# EAGLE library part 61304421821 (library Board-to-Board (rev18a))
WR-PHD 2.54mm Dual Socket Header, 44 Pins =>Code : Con_BTB_SHD_2.54_2_61304421821 <http://katalog.we-online.de/media/images/eican/Con_BTB_SHD_2.54_2_6130xx21821_pf2.jpg> Details see: http://katalog.we-online.de/en/em/613_0xx_218_21 Created 2014-05-29, Karrer Zheng 2014 (C) Würth Elektronik
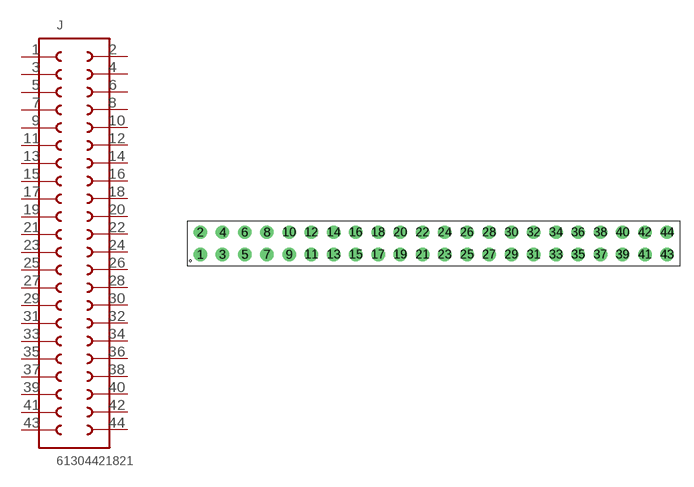
[diagram p123: symbol with the pads of 61304421821; footprint 61304421821]

Designator prefix J

## 61304421821  [61304421821]
1  1  pas
2  44  pas
3  2  pas
4  43  pas
5  3  pas
6  42  pas
7  4  pas
8  41  pas
9  5  pas
10  40  pas
11  6  pas
12  39  pas
13  7  pas
14  38  pas
15  8  pas
16  37  pas
17  9  pas
18  36  pas
19  10  pas
20  35  pas
21  11  pas
22  34  pas
23  12  pas
24  33  pas
25  13  pas
26  32  pas
27  14  pas
28  31  pas
29  15  pas
30  30  pas
31  16  pas
32  29  pas
33  17  pas
34  28  pas
35  18  pas
36  27  pas
37  19  pas
38  26  pas
39  20  pas
40  25  pas
41  21  pas
42  24  pas
43  22  pas
44  23  pas

## Footprint 61304421821 (pad centres in mm)
WR-PHD 2.54mm Dual Socket Header, 44 Pins
drill 1.02: 1 -26.67,-1.27; 2 -26.67,1.27; 3 -24.13,-1.27; 4 -24.13,1.27; 5 -21.59,-1.27; 6 -21.59,1.27; 7 -19.05,-1.27; 8 -19.05,1.27; 9 -16.51,-1.27; 10 -16.51,1.27; 11 -13.97,-1.27; 12 -13.97,1.27; 13 -11.43,-1.27; 14 -11.43,1.27; 15 -8.89,-1.27; 16 -8.89,1.27; 17 -6.35,-1.27; 18 -6.35,1.27; 19 -3.81,-1.27; 20 -3.81,1.27; 21 -1.27,-1.27; 22 -1.27,1.27; 23 1.27,-1.27; 24 1.27,1.27; 25 3.81,-1.27; 26 3.81,1.27; 27 6.35,-1.27; 28 6.35,1.27; 29 8.89,-1.27; 30 8.89,1.27; 31 11.43,-1.27; 32 11.43,1.27; 33 13.97,-1.27; 34 13.97,1.27; 35 16.51,-1.27; 36 16.51,1.27; 37 19.05,-1.27; 38 19.05,1.27; 39 21.59,-1.27; 40 21.59,1.27; 41 24.13,-1.27; 42 24.13,1.27; 43 26.67,-1.27; 44 26.67,1.27